# Altium integrated library STMicroelectronics Power Management Linear Regulator.IntLib: 508 symbols (part 10 of 10)
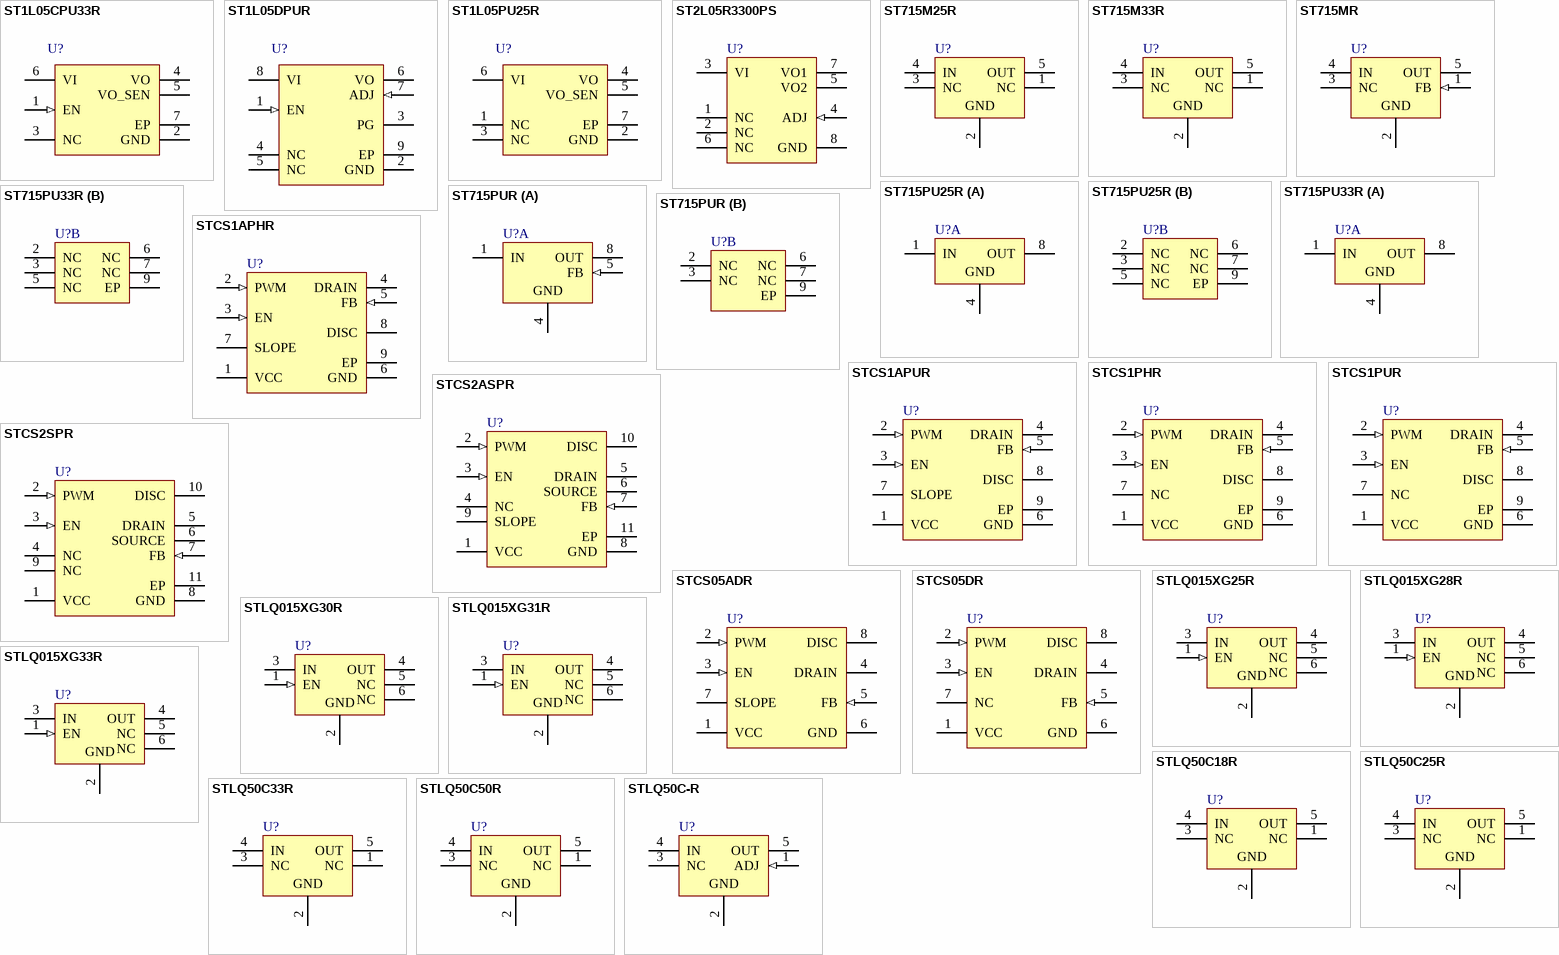
[diagram p21: symbols ST1L05CPU33R to STLQ50C-R]

## STLQ015XG31R
designator U?
150 mA - Ultra Low Quiescent Current Linear Voltage Regulator, 3.1V, 6-Pin SOT-666, Tape and Reel; PartNumber: STLQ015XG31R; DatasheetVersion: Jan-2011; PackageVersion: 2011; PackageReference: SOT666; PackageDescription: 6-Pin Dual Lead-Flat Package 0.5 mm Pitch; ComponentLink1Description: Manufacturer URL; ComponentLink1URL: http://www.st.com; ComponentLink2Description: Datasheet; ComponentLink2URL: http://www.st.com/internet/com/TECHNICAL_RESOURCES/TECHNICAL_LITERATURE/DATASHEET/CD00268765.pdf
footprint SOT666 (SOP, 6-Flat Leads, Body 1.6x1.6x0.6mm, inc leads (LxWxH typ), Pitch 0.5mm, ST Recommended)
pins: 1 EN (in), 2 GND (power), 3 IN (power), 4 OUT (power), 5 NC, 6 NC

## STLQ015XG33R
designator U?
150 mA - Ultra Low Quiescent Current Linear Voltage Regulator, 3.3V, 6-Pin SOT-666, Tape and Reel; PartNumber: STLQ015XG33R; DatasheetVersion: Jan-2011; PackageVersion: 2011; PackageReference: SOT666; PackageDescription: 6-Pin Dual Lead-Flat Package 0.5 mm Pitch; ComponentLink1Description: Manufacturer URL; ComponentLink1URL: http://www.st.com; ComponentLink2Description: Datasheet; ComponentLink2URL: http://www.st.com/internet/com/TECHNICAL_RESOURCES/TECHNICAL_LITERATURE/DATASHEET/CD00268765.pdf
footprint SOT666 (SOP, 6-Flat Leads, Body 1.6x1.6x0.6mm, inc leads (LxWxH typ), Pitch 0.5mm, ST Recommended)
pins: 1 EN (in), 2 GND (power), 3 IN (power), 4 OUT (power), 5 NC, 6 NC

## STLQ50C18R
designator U?
50mA, 3µA Supply Current Low Drop Linear Regulator, 1.8V, 5-Pin SOT-323, Tape and Reel; PartNumber: STLQ50C18R; DatasheetVersion: Nov-2007; PackageVersion: 2006; PackageReference: SOT323-5L; PackageDescription: 5-Pin SOT-323 Package, 2 x 1.3 mm Body, 0.65 mm Pitch, 2.1 mm Lead Span; ComponentLink1Description: Manufacturer URL; ComponentLink1URL: http://www.st.com; ComponentLink2Description: Datasheet; ComponentLink2URL: http://www.st.com/internet/com/TECHNICAL_RESOURCES/TECHNICAL_LITERATURE/DATASHEET/CD00151464.pdf
footprint SOT323-5L_N (SOT323, 5-Leads, Body 2x1.3mm, Pitch 0.65mm, Lead Span 2.1mm, IPC Medium Density)
footprint SOT323-5L_L (SOT323, 5-Leads, Body 2x1.3mm, Pitch 0.65mm, Lead Span 2.1mm, IPC High Density)
footprint SOT323-5L_M (SOT323, 5-Leads, Body 2x1.3mm, Pitch 0.65mm, Lead Span 2.1mm, IPC Low Density)
pins: 1 NC, 2 GND (power), 3 NC, 4 IN (power), 5 OUT (power)

## STLQ50C25R
designator U?
50mA, 3µA Supply Current Low Drop Linear Regulator, 2.5V, 5-Pin SOT-323, Tape and Reel; PartNumber: STLQ50C25R; DatasheetVersion: Nov-2007; PackageVersion: 2006; PackageReference: SOT323-5L; PackageDescription: 5-Pin SOT-323 Package, 2 x 1.3 mm Body, 0.65 mm Pitch, 2.1 mm Lead Span; ComponentLink1Description: Manufacturer URL; ComponentLink1URL: http://www.st.com; ComponentLink2Description: Datasheet; ComponentLink2URL: http://www.st.com/internet/com/TECHNICAL_RESOURCES/TECHNICAL_LITERATURE/DATASHEET/CD00151464.pdf
footprint SOT323-5L_N (SOT323, 5-Leads, Body 2x1.3mm, Pitch 0.65mm, Lead Span 2.1mm, IPC Medium Density)
footprint SOT323-5L_L (SOT323, 5-Leads, Body 2x1.3mm, Pitch 0.65mm, Lead Span 2.1mm, IPC High Density)
footprint SOT323-5L_M (SOT323, 5-Leads, Body 2x1.3mm, Pitch 0.65mm, Lead Span 2.1mm, IPC Low Density)
pins: 1 NC, 2 GND (power), 3 NC, 4 IN (power), 5 OUT (power)

## STLQ50C33R
designator U?
50mA, 3µA Supply Current Low Drop Linear Regulator, 3.3V, 5-Pin SOT-323, Tape and Reel; PartNumber: STLQ50C33R; DatasheetVersion: Nov-2007; PackageVersion: 2006; PackageReference: SOT323-5L; PackageDescription: 5-Pin SOT-323 Package, 2 x 1.3 mm Body, 0.65 mm Pitch, 2.1 mm Lead Span; ComponentLink1Description: Manufacturer URL; ComponentLink1URL: http://www.st.com; ComponentLink2Description: Datasheet; ComponentLink2URL: http://www.st.com/internet/com/TECHNICAL_RESOURCES/TECHNICAL_LITERATURE/DATASHEET/CD00151464.pdf
footprint SOT323-5L_N (SOT323, 5-Leads, Body 2x1.3mm, Pitch 0.65mm, Lead Span 2.1mm, IPC Medium Density)
footprint SOT323-5L_L (SOT323, 5-Leads, Body 2x1.3mm, Pitch 0.65mm, Lead Span 2.1mm, IPC High Density)
footprint SOT323-5L_M (SOT323, 5-Leads, Body 2x1.3mm, Pitch 0.65mm, Lead Span 2.1mm, IPC Low Density)
pins: 1 NC, 2 GND (power), 3 NC, 4 IN (power), 5 OUT (power)

## STLQ50C50R
designator U?
50mA, 3µA Supply Current Low Drop Linear Regulator, 5.0V, 5-Pin SOT-323, Tape and Reel; PartNumber: STLQ50C50R; DatasheetVersion: Nov-2007; PackageVersion: 2006; PackageReference: SOT323-5L; PackageDescription: 5-Pin SOT-323 Package, 2 x 1.3 mm Body, 0.65 mm Pitch, 2.1 mm Lead Span; ComponentLink1Description: Manufacturer URL; ComponentLink1URL: http://www.st.com; ComponentLink2Description: Datasheet; ComponentLink2URL: http://www.st.com/internet/com/TECHNICAL_RESOURCES/TECHNICAL_LITERATURE/DATASHEET/CD00151464.pdf
footprint SOT323-5L_N (SOT323, 5-Leads, Body 2x1.3mm, Pitch 0.65mm, Lead Span 2.1mm, IPC Medium Density)
footprint SOT323-5L_L (SOT323, 5-Leads, Body 2x1.3mm, Pitch 0.65mm, Lead Span 2.1mm, IPC High Density)
footprint SOT323-5L_M (SOT323, 5-Leads, Body 2x1.3mm, Pitch 0.65mm, Lead Span 2.1mm, IPC Low Density)
pins: 1 NC, 2 GND (power), 3 NC, 4 IN (power), 5 OUT (power)

## STLQ50C-R
designator U?
50mA, 3µA Supply Current Low Drop Linear Regulator, Adjustable Vo, 5-Pin SOT-323, Tape and Reel; PartNumber: STLQ50C-R; DatasheetVersion: Nov-2007; PackageVersion: 2006; PackageReference: SOT323-5L; PackageDescription: 5-Pin SOT-323 Package, 2 x 1.3 mm Body, 0.65 mm Pitch, 2.1 mm Lead Span; ComponentLink1Description: Manufacturer URL; ComponentLink1URL: http://www.st.com; ComponentLink2Description: Datasheet; ComponentLink2URL: http://www.st.com/internet/com/TECHNICAL_RESOURCES/TECHNICAL_LITERATURE/DATASHEET/CD00151464.pdf
footprint SOT323-5L_N (SOT323, 5-Leads, Body 2x1.3mm, Pitch 0.65mm, Lead Span 2.1mm, IPC Medium Density)
footprint SOT323-5L_L (SOT323, 5-Leads, Body 2x1.3mm, Pitch 0.65mm, Lead Span 2.1mm, IPC High Density)
footprint SOT323-5L_M (SOT323, 5-Leads, Body 2x1.3mm, Pitch 0.65mm, Lead Span 2.1mm, IPC Low Density)
pins: 1 ADJ (in), 2 GND (power), 3 NC, 4 IN (power), 5 OUT (power)